# EAGLE library part I__4018 (library ..SMD)
COUNTER/DIVIDER
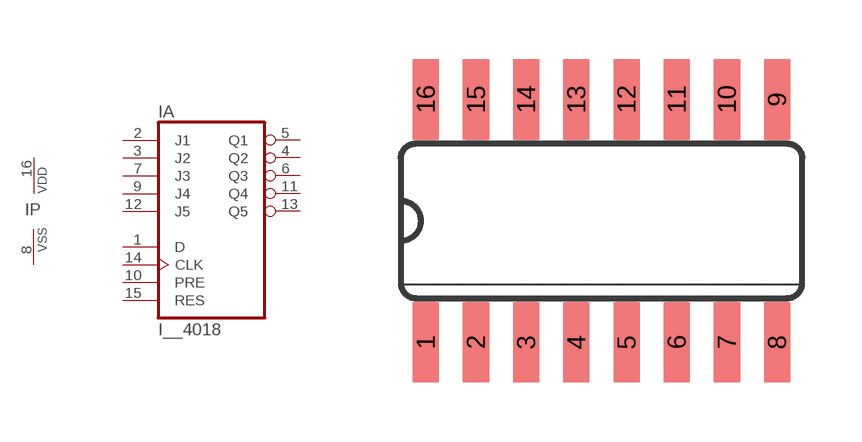
[diagram p21: symbol with the pads of SO16; footprint SO16]

Designator prefix I; gates A=4018 P=PWRN

## I__4018D  [SO16]
1  A:D  in
2  A:J1  in
3  A:J2  in
4  A:Q2  out
5  A:Q1  out
6  A:Q3  out
7  A:J3  in
8  P:VSS  pwr
9  A:J4  in
10  A:PRE  in
11  A:Q4  out
12  A:J5  in
13  A:Q5  out
14  A:CLK  in
15  A:RES  in
16  P:VDD  pwr

## Footprint SO16 (pad centres in mm)
Small Outline Package 16
smd 0.66 x 2.032: 1 -4.445,-3.073; 2 -3.175,-3.073; 3 -1.905,-3.073; 4 -0.635,-3.073; 5 0.635,-3.073; 6 1.905,-3.073; 7 3.175,-3.073; 8 4.445,-3.073; 9 4.445,3.073; 10 3.175,3.073; 11 1.905,3.073; 12 0.635,3.073; 13 -0.635,3.073; 14 -1.905,3.073; 15 -3.175,3.073; 16 -4.445,3.073